# EAGLE library part PREC070F17X1R90 (library con-pinheader-male-female)
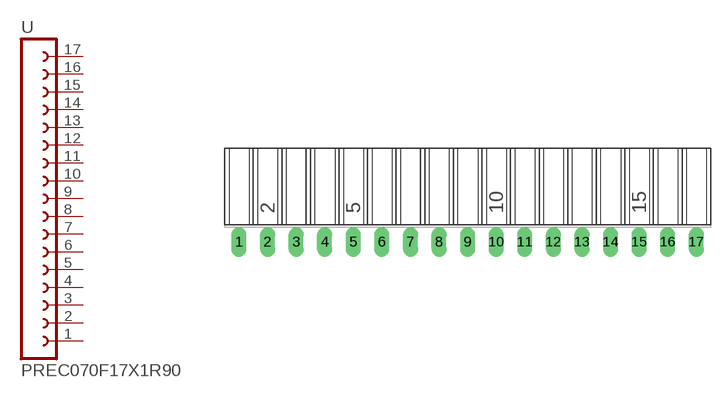
[diagram p11: symbol with the pads of PREC070F17X1R90; footprint PREC070F17X1R90]

Designator prefix -

## PREC070F17X1R90  [PREC070F17X1R90]
1  1  pas
2  2  pas
3  3  pas
4  4  pas
5  5  pas
6  6  pas
7  7  pas
8  8  pas
9  9  pas
10  10  pas
11  11  pas
12  12  pas
13  13  pas
14  14  pas
15  15  pas
16  16  pas
17  17  pas

## Footprint PREC070F17X1R90 (pad centres in mm)
female precision header
drill 0.813 long: 1 -20.32,0; 2 -17.78,0; 3 -15.24,0; 4 -12.7,0; 5 -10.16,0; 6 -7.62,0; 7 -5.08,0; 8 -2.54,0; 9 0,0; 10 2.54,0; 11 5.08,0; 12 7.62,0; 13 10.16,0; 14 12.7,0; 15 15.24,0; 16 17.78,0; 17 20.32,0